# Altium footprint library Home.PcbLib: 28 footprints (part 2 of 2)
Each footprint in its own frame and in the unit in brackets; x right, y up, seen from the top. Pads: shape width x height; smd on the part's side, far side on the other; paste and mask are expansions set on the pad; w line width, h text height; cw(c..) or ccw(c..) is an arc to the next point about the centre after c.
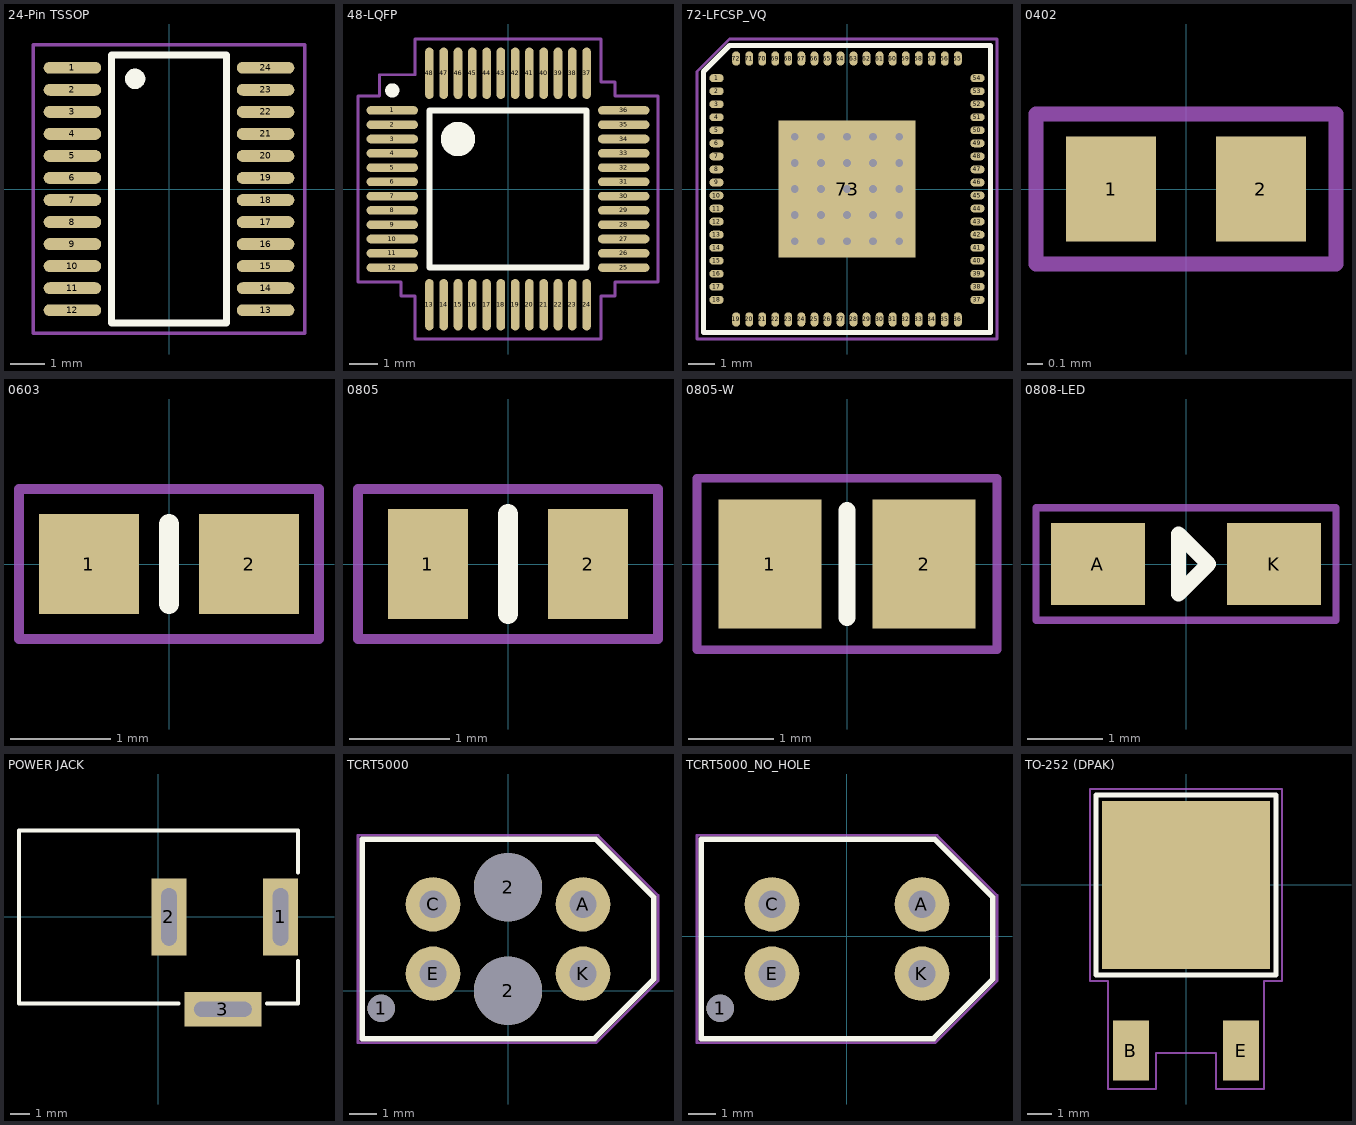
[diagram p1: the footprints below, top view; thin cyan lines are the x and y axes]

## 24-Pin TSSOP [mm]
height 1.1
pads (24):
  oval 1.7x0.35 smd mask+0.035: 1(-2.85,3.575) 2(-2.85,2.925) 3(-2.85,2.275) 4(-2.85,1.625) 5(-2.85,0.975) 6(-2.85,0.325) 7(-2.85,-0.325) 8(-2.85,-0.975) 9(-2.85,-1.625) 10(-2.85,-2.275) 11(-2.85,-2.925) 12(-2.85,-3.575) 13(2.85,-3.575) 14(2.85,-2.925) 15(2.85,-2.275) 16(2.85,-1.625) 17(2.85,-0.975) 18(2.85,-0.325) 19(2.85,0.325) 20(2.85,0.975) 21(2.85,1.625) 22(2.85,2.275) 23(2.85,2.925) 24(2.85,3.575)
Top Overlay:
  circle w0.3: c-1,3.25 r0.15
  lines w0.2: -1.7,-3.95 1.7,-3.95 1.7,3.95 -1.7,3.95 -1.7,-3.95
Top Courtyard:
  lines w0.1: -4,-4.25 -4,4.25 4,4.25 4,-4.25 -4,-4.25
3D body "User Library-User Library-TSSOP-24.step": height 1.2, standoff 0, extent -3.275,-3.95 3.275,3.95

## 48-LQFP [mm]
height 1.6
pads (48):
  oval 1.8x0.3 smd mask+0.035: 1(-4.05,2.75) 2(-4.05,2.25) 3(-4.05,1.75) 4(-4.05,1.25) 5(-4.05,0.75) 6(-4.05,0.25) 7(-4.05,-0.25) 8(-4.05,-0.75) 9(-4.05,-1.25) 10(-4.05,-1.75) 11(-4.05,-2.25) 12(-4.05,-2.75) 25(4.05,-2.75) 26(4.05,-2.25) 27(4.05,-1.75) 28(4.05,-1.25) 29(4.05,-0.75) 30(4.05,-0.25) 31(4.05,0.25) 32(4.05,0.75) 33(4.05,1.25) 34(4.05,1.75) 35(4.05,2.25) 36(4.05,2.75)
  oval 0.3x1.8 smd mask+0.035: 13(-2.75,-4.05) 14(-2.25,-4.05) 15(-1.75,-4.05) 16(-1.25,-4.05) 17(-0.75,-4.05) 18(-0.25,-4.05) 19(0.25,-4.05) 20(0.75,-4.05) 21(1.25,-4.05) 22(1.75,-4.05) 23(2.25,-4.05) 24(2.75,-4.05) 37(2.75,4.05) 38(2.25,4.05) 39(1.75,4.05) 40(1.25,4.05) 41(0.75,4.05) 42(0.25,4.05) 43(-0.25,4.05) 44(-0.75,4.05) 45(-1.25,4.05) 46(-1.75,4.05) 47(-2.25,4.05) 48(-2.75,4.05)
Top Overlay:
  circle w0.25: c-4.05,3.45 r0.125
  circle w0.6: c-1.75,1.75 r0.3
  lines w0.2: -2.75,-2.75 -2.75,2.75 2.75,2.75 2.75,-2.75 -2.75,-2.75
Top Courtyard:
  lines w0.1: -5.25,-3.25 -3.75,-3.25 -3.75,-3.75 -3.25,-3.75 -3.25,-5.25 3.25,-5.25 3.25,-3.75 3.75,-3.75 3.75,-3.25 5.25,-3.25 5.25,3.25 3.75,3.25 3.75,3.75 3.25,3.75 3.25,5.25 -3.25,5.25 -3.25,4 -4.5,4 -4.5,3.25 -5.25,3.25 -5.25,-3.25
3D body "User Library-TQFP-48.STEP": height 1.48, standoff 0.02, extent -4.5,-4.5 4.5,4.5

## 72-LFCSP_VQ [mm]
height 0.85
pads (73):
  oval 0.55x0.3 smd mask+0.035: 1(-5,4.25) 2(-5,3.75) 3(-5,3.25) 4(-5,2.75) 5(-5,2.25) 6(-5,1.75) 7(-5,1.25) 8(-5,0.75) 9(-5,0.25) 10(-5,-0.25) 11(-5,-0.75) 12(-5,-1.25) 13(-5,-1.75) 14(-5,-2.25) 15(-5,-2.75) 16(-5,-3.25) 17(-5,-3.75) 18(-5,-4.25) 37(5,-4.25) 38(5,-3.75) 39(5,-3.25) 40(5,-2.75) 41(5,-2.25) 42(5,-1.75) 43(5,-1.25) 44(5,-0.75) 45(5,-0.25) 46(5,0.25) 47(5,0.75) 48(5,1.25) 49(5,1.75) 50(5,2.25) 51(5,2.75) 52(5,3.25) 53(5,3.75) 54(5,4.25)
  oval 0.3x0.55 smd mask+0.035: 19(-4.25,-5) 20(-3.75,-5) 21(-3.25,-5) 22(-2.75,-5) 23(-2.25,-5) 24(-1.75,-5) 25(-1.25,-5) 26(-0.75,-5) 27(-0.25,-5) 28(0.25,-5) 29(0.75,-5) 30(1.25,-5) 31(1.75,-5) 32(2.25,-5) 33(2.75,-5) 34(3.25,-5) 35(3.75,-5) 36(4.25,-5) 55(4.25,5) 56(3.75,5) 57(3.25,5) 58(2.75,5) 59(2.25,5) 60(1.75,5) 61(1.25,5) 62(0.75,5) 63(0.25,5) 64(-0.25,5) 65(-0.75,5) 66(-1.25,5) 67(-1.75,5) 68(-2.25,5) 69(-2.75,5) 70(-3.25,5) 71(-3.75,5) 72(-4.25,5)
  rect 5.25x5.25 smd paste-10 mask+0.035: 73(0,0)
via -2,-2 diameter 0.6 hole 0.3
via -1,-2 diameter 0.6 hole 0.3
via 0,-2 diameter 0.6 hole 0.3
via 1,-2 diameter 0.6 hole 0.3
via 2,-2 diameter 0.6 hole 0.3
via -2,-1 diameter 0.6 hole 0.3
via -1,-1 diameter 0.6 hole 0.3
via 0,-1 diameter 0.6 hole 0.3
via 1,-1 diameter 0.6 hole 0.3
via 2,-1 diameter 0.6 hole 0.3
via -2,0 diameter 0.6 hole 0.3
via -1,0 diameter 0.6 hole 0.3
via 0,0 diameter 0.6 hole 0.3
via 1,0 diameter 0.6 hole 0.3
via 2,0 diameter 0.6 hole 0.3
via -2,1 diameter 0.6 hole 0.3
via -1,1 diameter 0.6 hole 0.3
via 0,1 diameter 0.6 hole 0.3
via 1,1 diameter 0.6 hole 0.3
via 2,1 diameter 0.6 hole 0.3
via 2,2 diameter 0.6 hole 0.3
via 1,2 diameter 0.6 hole 0.3
via 0,2 diameter 0.6 hole 0.3
via -1,2 diameter 0.6 hole 0.3
via -2,2 diameter 0.6 hole 0.3
Top Overlay:
  lines w0.2: -5.5,-5.5 5.5,-5.5 5.5,5.5 -4.5,5.5 -5.5,4.5 -5.5,-5.5
Bottom Overlay:
  lines w0.2: -5.75,-5.75 -5.75,5.75 5.75,5.75 5.75,-5.75 -5.75,-5.75
Top Courtyard:
  lines w0.1: -5.75,-5.75 -5.75,4.5 -4.5,5.75 5.75,5.75 5.75,-5.75 -5.75,-5.75
3D body "LFCSP-72.STEP": height 1, standoff 0, extent -5.02,-5.02 5.02,5.02

## 0402 [mm]
pads (2):
  rect 0.6x0.7 smd mask+0.035: 1(-0.5,0) 2(0.5,0)
Top Courtyard:
  lines w0.1: -1,-0.5 -1,0.5 1,0.5 1,-0.5 -1,-0.5
3D body "User Library-SMD CAPACITOR_0402.step": height 0.52, standoff 0.02, extent -0.5,-0.25 0.5,0.25

## 0603 [mm]
pads (2):
  rect 1x1 smd mask+0.035: 1(-0.8,0) 2(0.8,0)
Top Overlay:
  lines w0.2: 0,-0.4 0,0.4
Top Courtyard:
  lines w0.1: -1.5,-0.75 -1.5,0.75 1.5,0.75 1.5,-0.75 -1.5,-0.75
3D body "User Library-SMD CAPACITOR0603.STEP": height 0.82, standoff 0.02, extent -0.8,-0.4 0.8,0.4

## 0805 [mm]
height 1.1
pads (2):
  rect 0.8x1.1 smd mask+0.035: 1(-0.8,0) 2(0.8,0)
Top Overlay:
  lines w0.2: 0,-0.5 0,0.5
Top Courtyard:
  lines w0.1: -1.5,-0.75 1.5,-0.75 1.5,0.75 -1.5,0.75 -1.5,-0.75
3D body "User Library-cap_0805-1.step": height 1.2, standoff 0, extent -1,-0.6 1,0.6

## 0805-W [mm]
pads (2):
  rect 1.2x1.5 smd mask+0.035: 1(-0.9,0) 2(0.9,0)
Top Overlay:
  lines w0.2: 0,-0.625 0,0.625
Top Courtyard:
  lines w0.1: -1.75,-1 -1.75,1 1.75,1 1.75,-1 -1.75,-1
3D body "RES_0805.step": height 0.45, standoff 0, extent -1,-0.625 1,0.625

## 0808-LED [mm]
height 0.75
pads (2):
  rect 1.25x1.1 smd mask+0.035: A(-1.175,0) K(1.175,0)
Top Overlay:
  lines w0.2: -0.1,-0.4 -0.1,0.4 0.3,0 -0.1,-0.4
Top Courtyard:
  lines w0.1: -2,-0.75 -2,0.75 2,0.75 2,-0.75 -2,-0.75
3D body "User Library-CHIPLED-0805.STEP": height 0.9, standoff -0.01, extent -1.05,-0.675 1.05,0.675

## POWER JACK [mm]
height 10.7
pads (3):
  rect 1.8x4 hole 0.8 slot 3 at 90 deg: 1(6.35,0) 2(0.55,0)
  rect 4x1.8 hole 0.8 slot 3 at 0 deg: 3(3.35,-4.8)
Top Overlay:
  lines w0.2: 1.05,-4.5 -7.25,-4.5 -7.25,4.5 7.25,4.5 7.25,2.3 ; 5.65,-4.5 7.25,-4.5 7.25,-2.3
3D body: height 1.05, standoff -1.05, extent -1,5 -1,5
3D body "694108301002.stp": height 10.75, standoff -3.75, extent -7.25,-5 7.25,4.5

## TCRT5000 [mm]
height 7.2
pads (7):
  round 1 hole 1: 1(-4.65,-0.64)
  round 2.5 hole 2.5: 2(0,0) 2(0,3.8)
  round 2 hole 1: A(2.75,3.17) C(-2.75,3.17) E(-2.75,0.63) K(2.75,0.63)
Top Overlay:
  lines w0.2: -5.35,-1.75 -5.35,5.55 3.225,5.55 5.35,3.425 5.35,0.425 3.175,-1.75 -5.35,-1.75
Top Courtyard:
  lines w0.1: -5.5,-1.9 -5.5,5.7 3.3,5.7 5.5,3.5 5.5,0.36 3.24,-1.9 -5.5,-1.9
3D body "TCRT5000.stp": height 7.02, standoff -3.5, extent -5.1,-1.65 5.1,5.35

## TCRT5000_NO_HOLE [mm]
pads (5):
  round 1 hole 1: 1(-4.65,-2.64)
  round 2 hole 1: A(2.75,1.17) C(-2.75,1.17) E(-2.75,-1.37) K(2.75,-1.37)
Top Overlay:
  lines w0.2: -5.35,-3.75 -5.35,3.55 3.225,3.55 5.35,1.425 5.35,-1.575 3.175,-3.75 -5.35,-3.75
Top Courtyard:
  lines w0.1: -5.5,-3.9 -5.5,3.7 3.3,3.7 5.5,1.5 5.5,-1.64 3.24,-3.9 -5.5,-3.9
3D body "TCRT5000.stp": height 7.02, standoff -3.5, extent -5.1,-3.65 5.1,3.35

## TO-252 (DPAK) [mm]
height 2.4
pads (3):
  rect 1.5x2.5 smd mask+0.035: B(-2.3,-6.9) E(2.3,-6.9)
  rect 7x7 smd mask+0.035: ""(0,0)
Top Overlay:
  lines w0.2: -3.75,-3.75 -3.75,3.75 3.75,3.75 3.75,-3.75 -3.75,-3.75
Top Courtyard:
  lines w0.1: -4,-4 -3.25,-4 -3.25,-4.25 -3.25,-8.5 -1.25,-8.5 -1.25,-7 1.25,-7 1.25,-8.5 3.25,-8.5 3.25,-4 4,-4 4,4 -3.75,4 -4,4 -4,-4
3D body "User Library-DPAK_TO-252AA.STEP": height 2.37, standoff -0.03, extent -3.367,-6.78 3.367,3.32